# Altium schematic symbol library MCP1799-3302H_DB.SchLib: 1 symbol
Pins are listed as number, name and electrical type; pins without a type are passive.

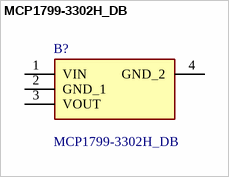
[diagram p0: symbol MCP1799-3302H_DB]

## MCP1799-3302H_DB
designator B?
LDO Voltage Regulators High Voltage LDO 3.3V 3-Ld SOT-223 Tube; Manufacturer_Name: Microchip; Manufacturer_Part_Number: MCP1799-3302H/DB; Geometry.Height: 1.8mm; Mouser Part Number: 579-MCP1799-3302H/DB; Mouser Price/Stock: https://www.mouser.co.uk/ProductDetail/Microchip-Technology-Atmel/MCP1799-3302H-DB?qs=BJlw7L4Cy7%2Fcz2TtAqJdSg%3D%3D; Datasheet Link: https://datasheet.datasheetarchive.com/originals/distributors/Datasheets_SAMA/2add369fe97b3d22cf8b2b374aafb195.pdf
footprint SOT230P700X180-4N
pins: 1 VIN, 2 GND_1, 3 VOUT, 4 GND_2